# EAGLE library part BSZ0506NS (library infineon)
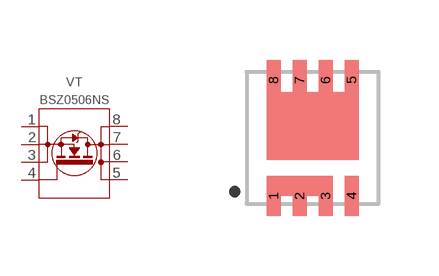
[diagram p2: symbol with the pads of TSDSON-8; footprint TSDSON-8]

Designator prefix VT

## BSZ0506NSATMA1  [TSDSON-8]
1  S  pas
2  S  pas
3  S  pas
4  G  pas
5  D  pas
6  D  pas
7  D  pas
8  D  pas

## Footprint TSDSON-8 (pad centres in mm)
smd 0.35 x 1: 1 -0.975,-1.45; 2 -0.325,-1.45; 3 0.325,-1.45; 4 0.975,-1.45; 5 0.975,1.45; 6 0.325,1.45; 7 -0.325,1.45; 8 -0.975,1.45